# EAGLE library part MAX7400 (library HyTechDevices)
MAX7400 Elliptic Filter Datasheet <https://datasheets.maximintegrated.com/en/ds/MAX7400-MAX7407.pdf>
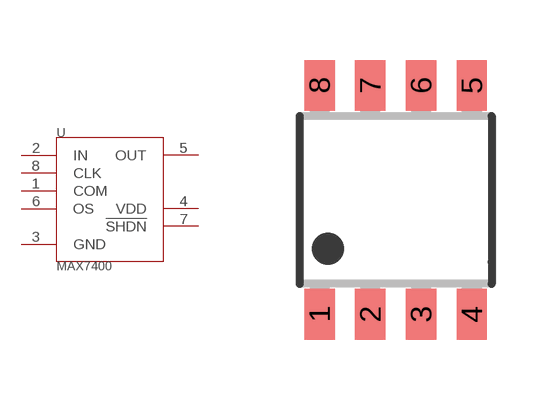
[diagram p47: symbol with the pads of SOP8; footprint SOP8]

Designator prefix -

## MAX7400  [SOP8]
1  COM
2  IN
3  GND
4  VDD
5  OUT
6  OS
7  !SHDN
8  CLK

## Footprint SOP8 (pad centres in mm)
Small Outline Package 8 8P2S-A Plastic 8pin 225mil SOP Source: Mitsubishi M5218AL/P/FP
smd 0.76 x 1.27: 1 -1.905,-2.86; 2 -0.635,-2.86; 3 0.635,-2.86; 4 1.905,-2.86; 5 1.905,2.86; 6 0.635,2.86; 7 -0.635,2.86; 8 -1.905,2.86